# Altium footprint library rmi.PcbLib: 11 footprints
Each footprint in its own frame and in the unit in brackets; x right, y up, seen from the top. Pads: shape width x height; smd on the part's side, far side on the other; paste and mask are expansions set on the pad; w line width, h text height; cw(c..) or ccw(c..) is an arc to the next point about the centre after c.
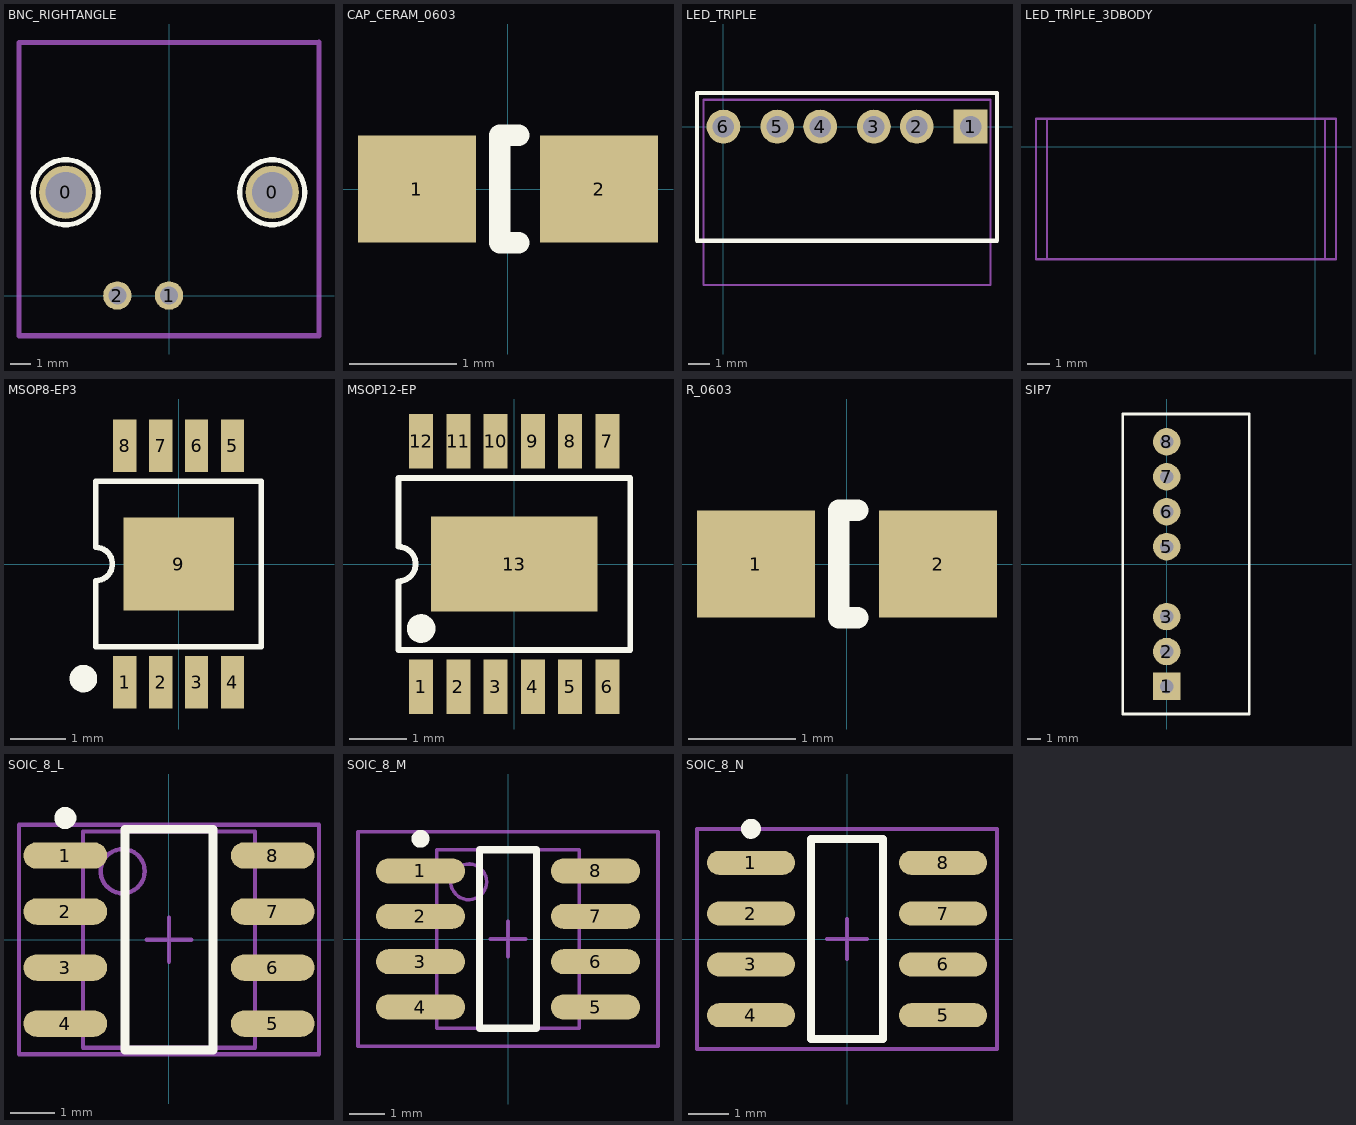
[diagram p0: the footprints below, top view; thin cyan lines are the x and y axes]

## BNC_RIGHTANGLE [mm] "BNC Jack Female Socket Right Angle"
height 13.16
pads (4):
  round 2.61 hole 2.01: 0(-5.08,5.08) 0(5.08,5.08)
  round 1.4 hole 0.89: 1(0,0) 2(-2.54,0)
Top Overlay:
  circle w0.254: c5.08,5.08 r1.6
  circle w0.254: c-5.08,5.08 r1.6
Mechanical 13:
  lines w0.254: 7.38,-1.98 -7.38,-1.98 -7.38,12.44 7.38,12.44 ; 7.38,-1.96 7.38,12.46
3D body: height 12.49, standoff 1.41, extent -5.506,21.2 5.55,33.2
3D body: height 13.19, standoff 0.71, extent -6.201,12.44 6.25,21.2
3D body: height 0, standoff -3.6, extent -5.973,4.182 -4.18,5.978
3D body: height 0, standoff -3.6, extent 4.187,4.182 5.98,5.978
3D body: height 0, standoff -4.15, extent -2.887,-0.349 -2.19,0.35
3D body: height 0, standoff -4.15, extent -0.347,-0.349 0.35,0.35
3D body: height 13.2, standoff 0, extent -7.38,-1.98 7.38,12.46

## CAP_CERAM_0603 [mm] "Chip Capacitor; Body 1.6 x 0.8 mm (LxW typ)"
height 0.87
pads (2):
  rect 1.1x1 smd: 1(-0.85,0) 2(0.85,0)
Top Overlay:
  lines w0.2: 0.1,-0.5 -0.075,-0.5 -0.075,0.5 0.1,0.5
3D body "CAP_CERAM_0603.step": height 0.78, standoff -0.02, extent -0.8,-0.4 0.8,0.4

## LED_TRIPLE [mm] "LED CBI 3MM YW/GN/GN TRI LEVEL"
height 4.57
pads (6):
  rect 1.6x1.6 hole 1.02: 1(11.68,0)
  round 1.6 hole 1.02: 2(9.14,0) 3(7.11,0) 4(4.57,0) 5(2.54,0) 6(0,0)
Top Overlay:
  lines w0.2: -1.25,-5.395 -1.25,1.585 12.93,1.585 12.93,-5.395 -1.25,-5.395
Mechanical 13:
  lines w0.1: -0.935,-7.483 12.615,-7.483 12.615,1.27 -0.935,1.27 -0.935,-7.483
3D body "LEDTRIPLE.step": height 4.3, standoff -3.68, extent -0.935,-7.483 12.615,1.27

## LED_TRÌPLE_3DBODY [mm] "LED Triple 3D Body"
Mechanical 13:
  lines w0.1: -12.115,-5.08 -12.115,1.27 ; 0.435,-5.08 0.435,1.27 ; -12.615,-5.08 -12.615,1.27 0.935,1.27 0.935,-5.08 -12.615,-5.08
3D body: height 4.04, standoff 1.04, extent -11.898,-5.99 -8.91,-5.08
3D body: height 4.04, standoff 1.04, extent -11.888,-7.483 -8.904,-4.496
3D body: height 4.04, standoff 1.04, extent -7.318,-7.483 -4.334,-4.496
3D body: height 4.04, standoff 1.04, extent -7.328,-5.99 -4.34,-5.08
3D body: height 4.04, standoff 1.04, extent -2.764,-5.99 0.224,-5.08
3D body: height 4.04, standoff 1.04, extent -2.754,-7.483 0.23,-4.496
3D body: height 0.51, standoff 0, extent -12.615,-5.08 -12.115,1.27
3D body: height 0.51, standoff 0, extent 0.435,-5.08 0.935,1.27
3D body: height 0.51, standoff -3.68, extent -0.223,-0.224 0.225,0.225
3D body: height 0.51, standoff -3.68, extent -2.763,-0.224 -2.315,0.225
3D body: height 0.51, standoff -3.68, extent -4.793,-0.224 -4.345,0.225
3D body: height 0.51, standoff -3.68, extent -7.333,-0.224 -6.885,0.225
3D body: height 0.51, standoff -3.68, extent -9.363,-0.224 -8.915,0.225
3D body: height 0.51, standoff -3.68, extent -11.903,-0.224 -11.455,0.225
3D body: height 4.3, standoff 0.51, extent -12.615,-5.08 0.935,1.27

## MSOP8-EP3 [mm] "MSOP with Exposed Pad; 8 Leads; Body Width 3 mm; Pitch 0.65 mm"
height 1.1
pads (9):
  rect 0.42x0.953 smd: 1(-0.975,-2.139) 2(-0.325,-2.139) 3(0.325,-2.139) 4(0.975,-2.139) 5(0.975,2.139) 6(0.325,2.139) 7(-0.325,2.139) 8(-0.975,2.139)
  rect 2x1.68 smd: 9(0,0)
Top Overlay:
  circle w0.25: c-1.725,-2.075 r0.125
  lines w0.1: -1.5,-1.5 1.5,-1.5 1.5,1.5 -1.5,1.5 -1.5,0.3 cw(c-1.5,0) -1.5,-0.3 -1.5,-1.5
Top Solder:
  rectangle: -1.287,1.561 1.287,2.717
  rectangle: -1.286,-2.717 1.287,-1.561
3D body "MSOP_8.step": height 1.09, standoff -0.01, extent -1.5,-2.5 1.5,2.5

## MSOP12-EP [mm] "MSOP with Exposed Pad; 12 Leads; Body Width 3 mm; Pitch 0.65 mm"
height 1.1
pads (13):
  rect 0.42x0.953 smd: 1(-1.625,-2.139) 2(-0.975,-2.139) 3(-0.325,-2.139) 4(0.325,-2.139) 5(0.975,-2.139) 6(1.625,-2.139) 7(1.625,2.139) 8(0.975,2.139) 9(0.325,2.139) 10(-0.325,2.139) 11(-0.975,2.139) 12(-1.625,2.139)
  rect 2.9x1.651 smd: 13(0,0)
Top Overlay:
  circle w0.25: c-1.625,-1.125 r0.125
  lines w0.1: -2.02,-1.5 2.02,-1.5 2.02,1.5 -2.02,1.5 -2.02,0.3 cw(c-2.02,0) -2.02,-0.3 -2.02,-1.5
3D body "MSOP_12.step": height 1.1, standoff 0, extent -2.02,-2.45 2.02,2.45

## R_0603 [mm] "Chip Resistor; Body 1.6 x 0.8 mm (LxW typ)"
height 0.55
pads (2):
  rect 1.1x1 smd: 1(-0.85,0) 2(0.85,0)
Top Overlay:
  lines w0.2: 0.1,-0.5 -0.075,-0.5 -0.075,0.5 0.1,0.5
3D body "R_0603.step": height 0.44, standoff -0.01, extent -0.8,-0.4 0.8,0.4

## SIP7 [mm]
pads (7):
  rect 2x2 hole 1: 1(0,-8.89)
  round 2 hole 1: 2(0,-6.35) 3(0,-3.81) 5(0,1.27) 6(0,3.81) 7(0,6.35) 8(0,8.89)
Top Overlay:
  lines w0.2: -3.2,-10.89 -3.2,10.91 6,10.91 6,-10.89 -3.2,-10.89
3D body "User Library-RECOM_RS_Series.step": height 11.1, standoff -3.5, extent -3.33,-11.154 5.87,10.646

## SOIC_8_L [mm] "SOIC, 8-Leads, Body 4.9x3.9mm, Pitch 1.27mm, IPC High Density"
height 1.75
pads (8):
  oval 1.9x0.6 smd: 1(-2.35,1.905) 2(-2.35,0.635) 3(-2.35,-0.635) 4(-2.35,-1.905) 5(2.35,-1.905) 6(2.35,-0.635) 7(2.35,0.635) 8(2.35,1.905)
Top Overlay:
  circle w0.25: c-2.35,2.755 r0.125
  lines w0.2: -1,-2.5 -1,2.5 1,2.5 1,-2.5 -1,-2.5
Mechanical 13:
  circle w0.1: c-1.05,1.55 r0.5
  lines w0.1: -1.95,-2.45 -1.95,2.45 1.95,2.45 1.95,-2.45 -1.95,-2.45
Mechanical 15:
  lines w0.1: -0.5,0 0.5,0 ; 0,-0.5 0,0.5 ; -3.4,-2.6 -3.4,2.6 3.4,2.6 3.4,-2.6 -3.4,-2.6
3D body "8SOIC_D.stp": height 1.63, standoff 0, extent -3,-2.45 3,2.45

## SOIC_8_M [mm] "SOIC, 8-Leads, Body 4.9x3.9mm, Pitch 1.27mm, IPC Low Density"
height 1.75
pads (8):
  oval 2.5x0.7 smd: 1(-2.45,1.905) 2(-2.45,0.635) 3(-2.45,-0.635) 4(-2.45,-1.905) 5(2.45,-1.905) 6(2.45,-0.635) 7(2.45,0.635) 8(2.45,1.905)
Top Overlay:
  circle w0.25: c-2.45,2.805 r0.125
  lines w0.2: -0.8,-2.5 -0.8,2.5 0.8,2.5 0.8,-2.5 -0.8,-2.5
Mechanical 13:
  circle w0.1: c-1.1,1.6 r0.5
  lines w0.1: -2,-2.5 -2,2.5 2,2.5 2,-2.5 -2,-2.5
Mechanical 15:
  lines w0.1: -0.5,0 0.5,0 ; 0,-0.5 0,0.5 ; -4.2,-3 -4.2,3 4.2,3 4.2,-3 -4.2,-3
3D body "8SOIC_D.stp": height 1.63, standoff 0, extent -3.127,-2.45 2.873,2.45

## SOIC_8_N [mm] "SOIC, 8-Leads, Body 4.9x3.9mm, Pitch 1.27mm, IPC Medium Density"
height 1.75
pads (8):
  oval 2.2x0.6 smd: 1(-2.4,1.905) 2(-2.4,0.635) 3(-2.4,-0.635) 4(-2.4,-1.905) 5(2.4,-1.905) 6(2.4,-0.635) 7(2.4,0.635) 8(2.4,1.905)
Top Overlay:
  circle w0.25: c-2.4,2.755 r0.125
  lines w0.2: -0.9,-2.5 0.9,-2.5 0.9,2.5 -0.9,2.5 -0.9,-2.5
Mechanical 15:
  lines w0.1: -0.5,0 0.5,0 ; 0,-0.5 0,0.5 ; -3.75,-2.75 3.75,-2.75 3.75,2.75 -3.75,2.75 -3.75,-2.75
3D body "SOIC_8.stp": height 1.61, standoff -0.02, extent -3,-2.45 3,2.45